# EAGLE library part SP-22 (library trafo-triad)
AUDIO TRANSFORMER Red Spec Series
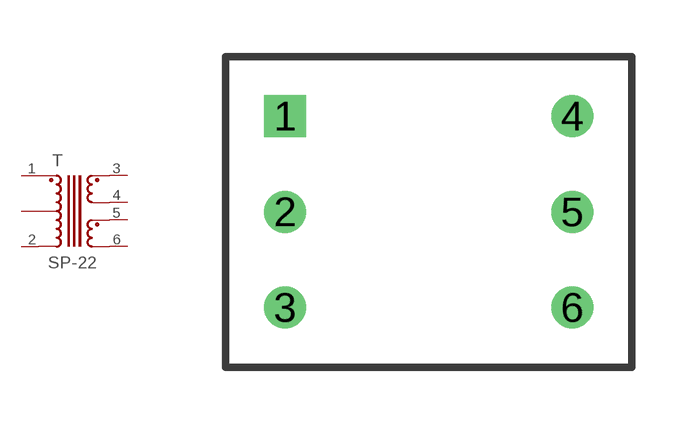
[diagram p5: symbol with the pads of REDSPEC-4; footprint REDSPEC-4]

Designator prefix T

## SP-22  [REDSPEC-4]
1  4  pas
2  2  pas
3  5  pas
4  7  pas
5  6  pas
6  8  pas

## Footprint REDSPEC-4 (pad centres in mm)
AUDIO TRANSFORMER - MIL-T-27E
drill 0.61 square: 1 -3.81,2.54
drill 0.61: 2 -3.81,0; 3 -3.81,-2.54; 4 3.81,2.54; 5 3.81,0; 6 3.81,-2.54